# Altium schematic symbol library conn_wire2board.SchLib: 71 symbols
Pins are listed as number, name and electrical type; pins without a type are passive.

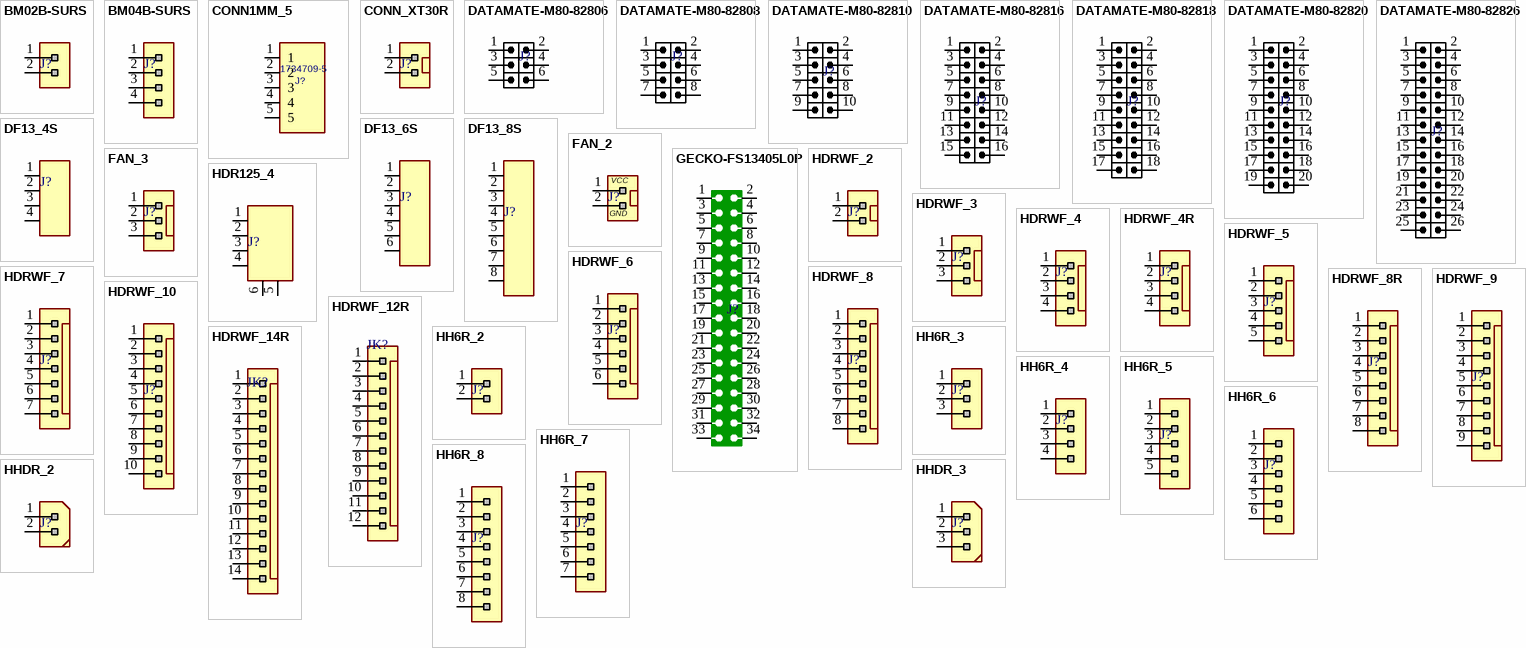
[diagram p0: symbols BM02B-SURS to HHDR_3]

## BM02B-SURS
designator J?, comment BM02B  (value not drawn)
Header, eSUR, Pitch: 0.8mm; MANF: JST; MANF_P#: BM02B-SURS-TF; PARAM2: 30VDC; PARAM: 0.5A; VALUE: BM02B; PRICE: 0.7$
footprint BM02B_SURS (eSUR, Pitch: 0.8mm, Top Entry)
pins: 1, 2

## BM04B-SURS
designator J?, comment BM04B  (value not drawn)
Header, eSUR, Pitch: 0.8mm; MANF: JST; MANF_P#: BM04B-SURS-TF; PARAM2: 30VDC; PARAM: 0.5A; VALUE: BM04B; PRICE: 0.5$
footprint BM04B_SURS (eSUR, Pitch: 0.8mm, Top Entry)
pins: 1, 2, 3, 4

## CONN1MM_5
designator J?, comment 1734709-5
CON 1X5 SMT RA 1MM 124H SN; MANF: Tyco Electronics; MANF_P#: 1734709-5
footprint con5_1mm_ra_smt
pins: 1, 2, 3, 4, 5

## CONN_XT30R
designator J?  (value not drawn)
Header, BT_CONN_XT30R; VALUE: CONN_XT30R
footprint BT_CONN_XT30R (BATTERY CONN XT30)
signal-integrity model Connector
pins: 1, 2

## DATAMATE-M80-82806
designator J?, comment M80-82806  (value not drawn)
Connector Datamate, pitch:2mm; MANF: Harwin; MANF_P#: M80-8280642; PARAM2: 3A per pin; PARAM: -55~125°C; VALUE: M80-82806; PRICE: 4$
footprint M80_82806 (M80-82806 Harwin Datamate 2mm Male)
pins: 1, 2, 3, 4, 5, 6

## DATAMATE-M80-82808
designator J?, comment M80-82808  (value not drawn)
Connector Datamate, pitch:2mm; MANF: Harwin; MANF_P#: M80-8280842; PARAM2: 3A per pin; PARAM: -55~125°C; VALUE: M80-82808; PRICE: 4$
footprint M80_82808 (Footprint not found)
pins: 1, 2, 3, 4, 5, 6, 7, 8

## DATAMATE-M80-82810
designator J?, comment M80-82810  (value not drawn)
Connector Datamate, pitch:2mm; MANF: Harwin; MANF_P#: M80-8281042; PARAM2: 3A per pin; PARAM: -55~125°C; VALUE: M80-82810; PRICE: 4$
footprint M80_82810 (M80-8281042 Harwin Datamate 2mm Male)
pins: 1, 2, 3, 4, 5, 6, 7, 8, 9, 10

## DATAMATE-M80-82816
designator J?, comment M80-82816  (value not drawn)
Connector Datamate, pitch:2mm; MANF: Harwin; MANF_P#: M80-8281642; PARAM2: 3A per pin; PARAM: -55~125°C; VALUE: M80-82816; PRICE: 4$
footprint M80_82816 (M80-8281642 Harwin Datamate 2mm Male)
pins: 1, 2, 3, 4, 5, 6, 7, 8, 9, 10, 11, 12, 13, 14, 15, 16

## DATAMATE-M80-82818
designator J?, comment M80-82818  (value not drawn)
Connector Datamate, pitch:2mm; MANF: Harwin; MANF_P#: M80-8281842; PARAM2: 3A per pin; PARAM: -55~125°C; VALUE: M80-82818; PRICE: 4$
footprint M80_82818 (M80-8281842 Harwin Datamate 2mm Male)
pins: 1, 2, 3, 4, 5, 6, 7, 8, 9, 10, 11, 12, 13, 14, 15, 16, 17, 18

## DATAMATE-M80-82820
designator J?, comment M80-82820  (value not drawn)
Connector Datamate, pitch:2mm; MANF: Harwin; MANF_P#: M80-8282042; PARAM2: 3A per pin; PARAM: -55~125°C; VALUE: M80-82820; PRICE: 4$
footprint M80_82820 (M80-8281042 Harwin Datamate 2mm Male)
pins: 1, 2, 3, 4, 5, 6, 7, 8, 9, 10, 11, 12, 13, 14, 15, 16, 17, 18, 19, 20

## DATAMATE-M80-82826
designator J?, comment M80-82826  (value not drawn)
Connector Datamate, pitch:2mm; MANF: Harwin; MANF_P#: M80-8282642; PARAM2: 3A per pin; PARAM: -55~125°C; VALUE: M80-82826; PRICE: 4$
footprint M80_82826 (M80-8282642 Harwin Datamate 2mm Male)
pins: 1, 2, 3, 4, 5, 6, 7, 8, 9, 10, 11, 12, 13, 14, 15, 16, 17, 18, 19, 20, 21, 22, 23, 24, 25, 26

## DF13_4S
designator J?, comment DF13-4  (value not drawn)
Connector DF13-4P-1.25H, DF13 4WAY pitch:1.25mm; MANF: Hirose; VALUE: DF13-4; MANF_P#: DF13-4P-1.25H
footprint DF13_4S (Hirose Connector DF13-4P-1.25H, DF13 4WAY pitch:1.25mm)
signal-integrity model Connector
pins: 1, 2, 3, 4

## DF13_6S
designator J?, comment DF13-6  (value not drawn)
Connector DF13-6P-1.25H, DF13 6WAY pitch:1.25mm; MANF: Hirose; MANF_P#: DF13-6P-1.25H; VALUE: DF13-6
footprint DF13_6S (Hirose Connector DF13-6P-1.25H, DF13 6WAY pitch:1.25mm)
signal-integrity model Connector
pins: 1, 2, 3, 4, 5, 6

## DF13_8S
designator J?, comment DF13-8  (value not drawn)
Connector DF13-8P-1.25H, DF13 6WAY pitch:1.25mm; MANF: Hirose; MANF_P#: DF13-8P-1.25H; VALUE: DF13-8
footprint DF13_8S (Hirose Connector DF13-8P-1.25H, DF13 6WAY pitch:1.25mm)
signal-integrity model Connector
pins: 1, 2, 3, 4, 5, 6, 7, 8

## FAN_2
designator J?  (value not drawn)
Header, WF, Pitch: 2.54mm; VALUE: FAN_2
footprint WF_2 (DS1070  WF, Cvilux CI31 pitch 2.54mm)
signal-integrity model Connector
pins: 1, 2
text: VCC; GND

## FAN_3
designator J?  (value not drawn)
Header, WF, Pitch: 2.54mm; VALUE: FAN_3
footprint WF_3 (DS1070  WF, Cvilux CI31 pitch 2.54mm)
signal-integrity model Connector
pins: 1, 2, 3

## GECKO-FS13405L0P
designator J?, comment G125-FS13405L0P  (value not drawn)
Connector GECKO, pitch:1.25mm; MANF: Harwin; PARAM2: 2A per pin; PARAM: -65~150°C; MANF_P#: G125-FS13405L0P; VALUE: G125-FS13405L0P; PRICE: 24$
footprint G125_FS13405L0P (Footprint not found)
pins: 1, 2, 3, 4, 5, 6, 7, 8, 9, 10, 11, 12, 13, 14, 15, 16, 17, 18, 19, 20, 21, 22, 23, 24, 25, 26, 27, 28, 29, 30, 31, 32, 33, 34

## HDR125_4
designator J?  (value not drawn)
CONN, HEADER, 1.25mm PITCH, MOLEX PicoBlade 0532610471; MANF: MOLEX; MANF_P#: 0532610471; VALUE: HDR125_4
footprint WF_4 (DS1070  WF, Cvilux CI31 pitch 2.54mm)
signal-integrity model Connector
pins: 1, 2, 3, 4, 5, 6

## HDRWF_2
designator J?  (value not drawn)
Header, WF, Pitch: 2.54mm; VALUE: HDRWF_2
footprint WF_2 (DS1070  WF, Cvilux CI31 pitch 2.54mm)
signal-integrity model Connector
pins: 1, 2

## HDRWF_3
designator J?  (value not drawn)
Header, WF, Pitch: 2.54mm; VALUE: HDRWF_3
footprint WF_3 (DS1070  WF, Cvilux CI31 pitch 2.54mm)
signal-integrity model Connector
pins: 1, 2, 3

## HDRWF_4
designator J?  (value not drawn)
Header, WF, Pitch: 2.54mm; VALUE: HDRWF_4
footprint WF_4 (DS1070  WF, Cvilux CI31 pitch 2.54mm)
signal-integrity model Connector
pins: 1, 2, 3, 4

## HDRWF_4R
designator J?, comment HDRWF_4  (value not drawn)
Header, WF, Pitch: 2.54mm, RIGHT ANGLE; VALUE: HDRWF_4
footprint WF_4R (DS1070  WF, Cvilux CI31 pitch 2.54mm right angle)
signal-integrity model Connector
pins: 1, 2, 3, 4

## HDRWF_5
designator J?  (value not drawn)
Header, WF, Pitch: 2.54mm; VALUE: HDRWF_5
footprint WF_5 (DS1070  WF, Cvilux CI31 pitch 2.54mm)
signal-integrity model Connector
pins: 1, 2, 3, 4, 5

## HDRWF_6
designator J?  (value not drawn)
Header, WF, Pitch: 2.54mm; VALUE: HDRWF_6
footprint WF_6 (DS1070  WF, Cvilux CI31 pitch 2.54mm)
signal-integrity model Connector
pins: 1, 2, 3, 4, 5, 6

## HDRWF_7
designator J?  (value not drawn)
Header, WF, Pitch: 2.54mm; VALUE: HDRWF_7
footprint WF_7 (DS1070  WF, Cvilux CI31 pitch 2.54mm)
signal-integrity model Connector
pins: 1, 2, 3, 4, 5, 6, 7

## HDRWF_8
designator J?  (value not drawn)
Header, WF, Pitch: 2.54mm; VALUE: HDRWF_8
footprint WF_8 (DS1070  WF, Cvilux CI31 pitch 2.54mm)
signal-integrity model Connector
pins: 1, 2, 3, 4, 5, 6, 7, 8

## HDRWF_8R
designator J?, comment HDRWF_8  (value not drawn)
Header, WF, Pitch: 2.54mm, RIGHT ANGLE; VALUE: HDRWF_8
footprint WF_8R (DS1070  WF, Cvilux CI31 pitch 2.54mm right angle)
signal-integrity model Connector
pins: 1, 2, 3, 4, 5, 6, 7, 8

## HDRWF_9
designator J?  (value not drawn)
Header, WF, Pitch: 2.54mm; VALUE: HDRWF_9
footprint WF_9 (DS1070  WF, Cvilux CI31 pitch 2.54mm)
signal-integrity model Connector
pins: 1, 2, 3, 4, 5, 6, 7, 8, 9

## HDRWF_10
designator J?  (value not drawn)
Header, WF, Pitch: 2.54mm; VALUE: HDRWF_10
footprint WF_10 (DS1070  WF, Cvilux CI31 pitch 2.54mm)
signal-integrity model Connector
pins: 1, 2, 3, 4, 5, 6, 7, 8, 9, 10

## HDRWF_12R
designator JK?, comment HDRWF_12  (value not drawn)
Header, WF, Pitch: 2.54mm; VALUE: HDRWF_12
footprint WF_12R (Footprint not found)
signal-integrity model Connector
pins: 1, 2, 3, 4, 5, 6, 7, 8, 9, 10, 11, 12

## HDRWF_14R
designator JK?, comment HDRWF_14  (value not drawn)
Header, WF, Pitch: 2.54mm; VALUE: HDRWF_14
footprint WF_14R (DS1070  WF, Cvilux CI31 pitch 2.54mm right angle)
signal-integrity model Connector
pins: 1, 2, 3, 4, 5, 6, 7, 8, 9, 10, 11, 12, 13, 14

## HH6R_2
designator J?  (value not drawn)
Header, Housing, 6mm width, Pitch: 2.54mm, Righ angle; VALUE: HH6R_2
footprint HH6R_2
signal-integrity model Connector
pins: 1, 2

## HH6R_3
designator J?  (value not drawn)
Header, Housing, 6mm width, Pitch: 2.54mm, Righ angle; VALUE: HH6R_3
footprint HH6R_3
signal-integrity model Connector
pins: 1, 2, 3

## HH6R_4
designator J?  (value not drawn)
Header, Housing, 6mm width, Pitch: 2.54mm, Righ angle; VALUE: HH6R_4
footprint HH6R_4
signal-integrity model Connector
pins: 1, 2, 3, 4

## HH6R_5
designator J?  (value not drawn)
Header, Housing, 6mm width, Pitch: 2.54mm, Righ angle; VALUE: HH6R_5
footprint HH6R_5
signal-integrity model Connector
pins: 1, 2, 3, 4, 5

## HH6R_6
designator J?  (value not drawn)
Header, Housing, 6mm width, Pitch: 2.54mm, Righ angle; VALUE: HH6R_6
footprint HH6R_6
signal-integrity model Connector
pins: 1, 2, 3, 4, 5, 6

## HH6R_7
designator J?  (value not drawn)
Header, Housing, 6mm width, Pitch: 2.54mm, Righ angle; VALUE: HH6R_7
footprint HH6R_7
signal-integrity model Connector
pins: 1, 2, 3, 4, 5, 6, 7

## HH6R_8
designator J?  (value not drawn)
Header, Housing, 6mm width, Pitch: 2.54mm, Righ angle; VALUE: HH6R_8
footprint HH6R_6
signal-integrity model Connector
pins: 1, 2, 3, 4, 5, 6, 7, 8

## HHDR_2
designator J?  (value not drawn)
Header, Housing, Pitch: 2.54mm; VALUE: HHDR_2
footprint HHDR_2
signal-integrity model Connector
pins: 1, 2

## HHDR_3
designator J?  (value not drawn)
Header, Housing, Pitch: 2.54mm; VALUE: HHDR_3
footprint HHDR_3
signal-integrity model Connector
pins: 1, 2, 3

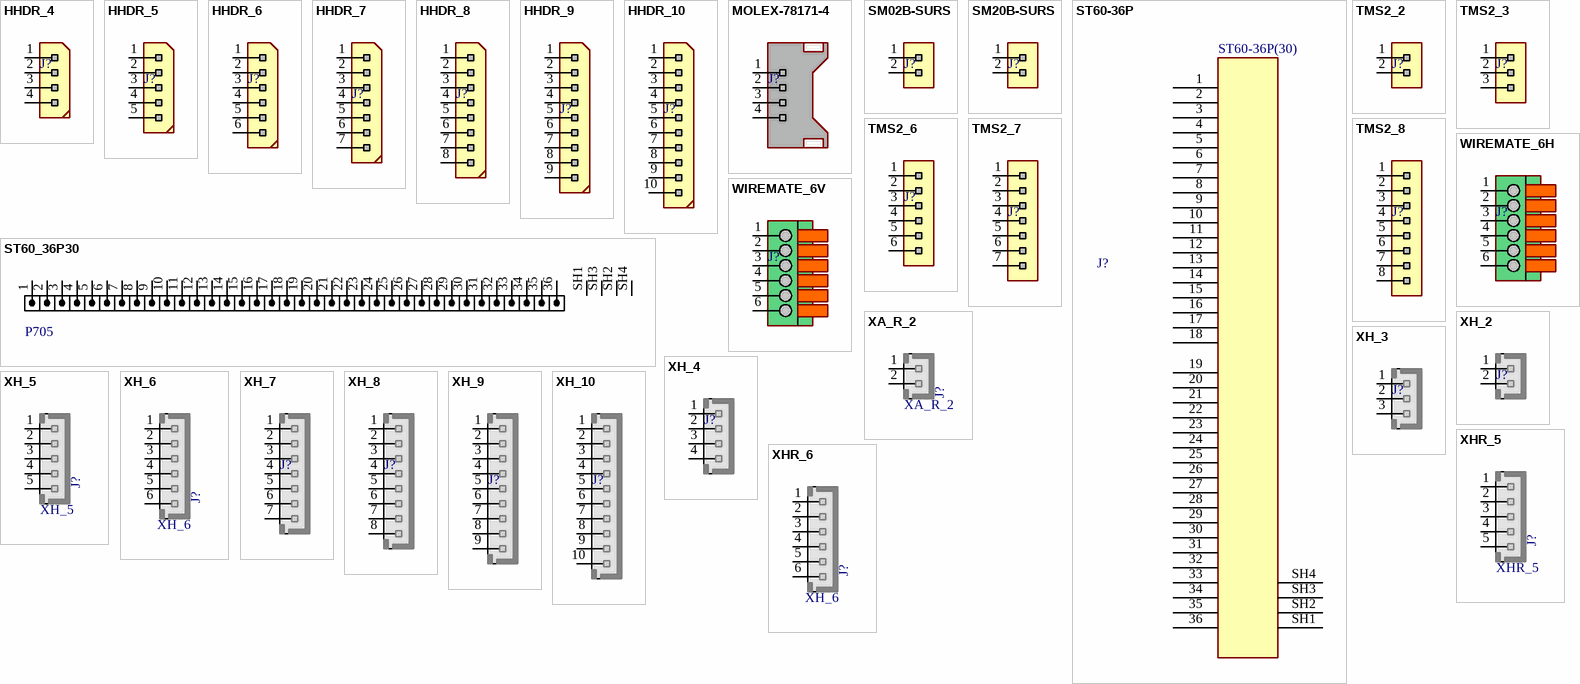
[diagram p1: symbols HHDR_4 to XHR_6]

## HHDR_4
designator J?  (value not drawn)
Header, Housing, Pitch: 2.54mm; VALUE: HHDR_4
footprint HHDR_4
signal-integrity model Connector
pins: 1, 2, 3, 4

## HHDR_5
designator J?  (value not drawn)
Header, Housing, Pitch: 2.54mm; VALUE: HHDR_5
footprint HHDR_5
signal-integrity model Connector
pins: 1, 2, 3, 4, 5

## HHDR_6
designator J?  (value not drawn)
Header, Housing, Pitch: 2.54mm; VALUE: HHDR_6
footprint HHDR_6
signal-integrity model Connector
pins: 1, 2, 3, 4, 5, 6

## HHDR_7
designator J?  (value not drawn)
Header, Housing, Pitch: 2.54mm; VALUE: HHDR_7
footprint HHDR_7
signal-integrity model Connector
pins: 1, 2, 3, 4, 5, 6, 7

## HHDR_8
designator J?  (value not drawn)
Header, Housing, Pitch: 2.54mm; VALUE: HHDR_8
footprint HHDR_8
signal-integrity model Connector
pins: 1, 2, 3, 4, 5, 6, 7, 8

## HHDR_9
designator J?  (value not drawn)
Header, Housing, Pitch: 2.54mm; VALUE: HHDR_9
footprint HHDR_9
signal-integrity model Connector
pins: 1, 2, 3, 4, 5, 6, 7, 8, 9

## HHDR_10
designator J?  (value not drawn)
Header, Housing, Pitch: 2.54mm; VALUE: HHDR_10
footprint HHDR_10
signal-integrity model Connector
pins: 1, 2, 3, 4, 5, 6, 7, 8, 9, 10

## MOLEX-78171-4
designator J?, comment 78171-0004  (value not drawn)
Header, PicoEZmate, Pitch: 1.2mm; MANF: MOLEX; DESC: Housing and Terminal 78172; PARAM2: 50VAC/DC; PARAM: 1.5A; VALUE: 78171-0004; MANF_P#: 78171-0004; PRICE: 0.2$
footprint MOLEX_78171_4 (PicoEZmate, Pitch: 1.2mm)
pins: 1, 2, 3, 4

## SM02B-SURS
designator J?, comment SM02B  (value not drawn)
Header, eSUR, Pitch: 0.8mm; MANF: JST; MANF_P#: SM02B-SURS-TF; PARAM2: 30VDC; PARAM: 0.5A; VALUE: SM02B; PRICE: 0.7$
footprint SM02B_SURS (Footprint not found)
pins: 1, 2

## SM20B-SURS
designator J?, comment SM20B  (value not drawn)
Header, eSUR, Pitch: 0.8mm; MANF: JST; MANF_P#: SM20B-SURS-TF; PARAM2: 30VDC; PARAM: 0.5A; VALUE: SM20B; PRICE: 0.7$
footprint SM20B_SURS (eSUR, Pitch: 0.8mm, side Entry)
pins: 1, 2

## ST60-36P
designator J?, comment ST60-36P(30)
CONN, SATA, 22POS, Vertical, THD; MANF: Hirose; MANF_P#: ST60-36P(30); PRICE: -; VALUE: ST60-36P(30)
footprint ST60_36P30 (ST60-36P(30) HIROSE, 0.5mm pitch)
footprint ST60_36P30M (ST60-36P(30) HIROSE, 0.5mm pitch modified)
pins: 1, 2, 3, 4, 5, 6, 7, 8, 9, 10, 11, 12, 13, 14, 15, 16, 17, 18, 19, 20, 21, 22, 23, 24, 25, 26, 27, 28, 29, 30, 31, 32, 33, 34, 35, 36, SH1, SH2, SH3, SH4

## ST60_36P30
designator P705  (value not drawn)
Interface Connectors for Portable Terminal Devices; VALUE: ST60_36P30
footprint ST60_36P30M (ST60-36P(30) HIROSE, 0.5mm pitch)
pins: 1, 2, 3, 4, 5, 6, 7, 8, 9, 10, 11, 12, 13, 14, 15, 16, 17, 18, 19, 20, 21, 22, 23, 24, 25, 26, 27, 28, 29, 30, 31, 32, 33, 34, 35, 36, SH1 (power), SH2, SH3, SH4

## TMS2_2
designator J?  (value not drawn)
Header, Housing, Pitch 2mm; VALUE: TMS2_2
footprint TMS2_2 (pitch: 2.0mm)
signal-integrity model Connector
pins: 1, 2

## TMS2_3
designator J?  (value not drawn)
Header, Housing, Pitch 2mm; VALUE: TMS2_3
footprint TMS2_3 (pitch: 2.0mm)
signal-integrity model Connector
pins: 1, 2, 3

## TMS2_6
designator J?  (value not drawn)
Header, Housing, Pitch 2mm; VALUE: TMS2_6
footprint TMS2_6 (pitch: 2.0mm)
signal-integrity model Connector
pins: 1, 2, 3, 4, 5, 6

## TMS2_7
designator J?  (value not drawn)
Header, Housing, Pitch 2mm; VALUE: TMS2_7
footprint TMS2_7 (pitch: 2.0mm)
signal-integrity model Connector
pins: 1, 2, 3, 4, 5, 6, 7

## TMS2_8
designator J?  (value not drawn)
Header, Housing, Pitch 2mm; VALUE: TMS2_8
footprint TMS2_8 (pitch: 2.0mm)
signal-integrity model Connector
pins: 1, 2, 3, 4, 5, 6, 7, 8

## WIREMATE_6H
designator J?, comment WIREMATE_6  (value not drawn)
Buchanan WireMate, Pitch: 2.54mm; MANF: TE; MANF_P#: 1-2834016-6; PARAM2: -40~105°C; PARAM: 6A, Horizontal; VALUE: WIREMATE_6; PRICE: 1.5$
footprint WIREMATE_6H (WIRE MATE 6, TE, pitch 2.54mm, Horizontal)
signal-integrity model Connector
pins: 1, 2, 3, 4, 5, 6

## WIREMATE_6V
designator J?, comment WIREMATE_6  (value not drawn)
Buchanan WireMate, Pitch: 2.54mm; MANF: TE; MANF_P#: 1-2834015-6; PARAM2: -40~105°C; PARAM: 6A, Vertical; VALUE: WIREMATE_6; PRICE: 1.5$
footprint WIREMATE_6V (WIRE MATE 6, TE, pitch 2.54mm, Vertical)
signal-integrity model Connector
pins: 1, 2, 3, 4, 5, 6

## XA_R_2
designator J?
Header, Housing, XA, Pitch: 2.5mm, Righ angle; MANF_P#: S02B-XASS-1; MANF: JST; VALUE: XA_R_2
footprint XA_R_2 (JST S02B-XASS-1 pitch: 2.5mm)
pins: 1, 2

## XH_2
designator J?, comment HHDR_2  (value not drawn)
JST-XH pitch: 2.5mm; VALUE: HHDR_2
footprint XH_2 (PW10-xx-M, JST-BxB-XH-A pitch: 2.5mm)
signal-integrity model Connector
pins: 1, 2

## XH_3
designator J?, comment HHDR_3  (value not drawn)
JST-XH pitch: 2.5mm; VALUE: HHDR_3
footprint XH_3 (PW10-xx-M, JST-BxB-XH-A pitch: 2.5mm)
signal-integrity model Connector
pins: 1, 2, 3

## XH_4
designator J?, comment HHDR_4  (value not drawn)
JST-XH pitch: 2.5mm; VALUE: HHDR_4
footprint XH_4 (PW10-xx-M, JST-BxB-XH-A pitch: 2.5mm)
signal-integrity model Connector
pins: 1, 2, 3, 4

## XH_5
designator J?
JST-XH pitch: 2.5mm; MANF_P#: JST-B5B-XHA; MANF: JST; VALUE: XH_5
signal-integrity model Connector
footprint XH_5 (PW10-xx-M, JST-BxB-XH-A pitch: 2.5mm)
pins: 1, 2, 3, 4, 5

## XH_6
designator J?
JST-XH pitch: 2.5mm; MANF_P#: JST-S6B-XHA; MANF: JST; VALUE: XH_6
signal-integrity model Connector
footprint XH_6 (PW10-xx-M, JST-BxB-XH-A pitch: 2.5mm)
pins: 1, 2, 3, 4, 5, 6

## XH_7
designator J?, comment HHDR_7  (value not drawn)
JST-XH pitch: 2.5mm; VALUE: HHDR_7
footprint XH_7 (PW10-xx-M, JST-BxB-XH-A pitch: 2.5mm)
signal-integrity model Connector
pins: 1, 2, 3, 4, 5, 6, 7

## XH_8
designator J?, comment HHDR_8  (value not drawn)
JST-XH pitch: 2.5mm; VALUE: HHDR_8
footprint XH_8 (PW10-xx-M, JST-BxB-XH-A pitch: 2.5mm)
signal-integrity model Connector
pins: 1, 2, 3, 4, 5, 6, 7, 8

## XH_9
designator J?, comment HHDR_9  (value not drawn)
JST-XH pitch: 2.5mm; VALUE: HHDR_9
footprint XH_9 (PW10-xx-M, JST-BxB-XH-A pitch: 2.5mm)
signal-integrity model Connector
pins: 1, 2, 3, 4, 5, 6, 7, 8, 9

## XH_10
designator J?, comment HHDR_10  (value not drawn)
JST-XH pitch: 2.5mm; VALUE: HHDR_10
footprint XH_10 (PW10-xx-M, JST-BxB-XH-A pitch: 2.5mm)
signal-integrity model Connector
pins: 1, 2, 3, 4, 5, 6, 7, 8, 9, 10

## XHR_5
designator J?
JST-XH pitch: 2.5mm; MANF: JST; MANF_P#: -; VALUE: XHR_5
signal-integrity model Connector
footprint XHR_5 (JST-SxB-XH-A pitch: 2.5mm)
pins: 1, 2, 3, 4, 5

## XHR_6
designator J?, comment XH_6
JST-XH pitch: 2.5mm; MANF: JST; MANF_P#: -; VALUE: XH_6
signal-integrity model Connector
footprint XHR_6 (JST-SxB-XH-A pitch: 2.5mm)
pins: 1, 2, 3, 4, 5, 6